# EAGLE library part RFD22301 (library everykey)
RFduino module
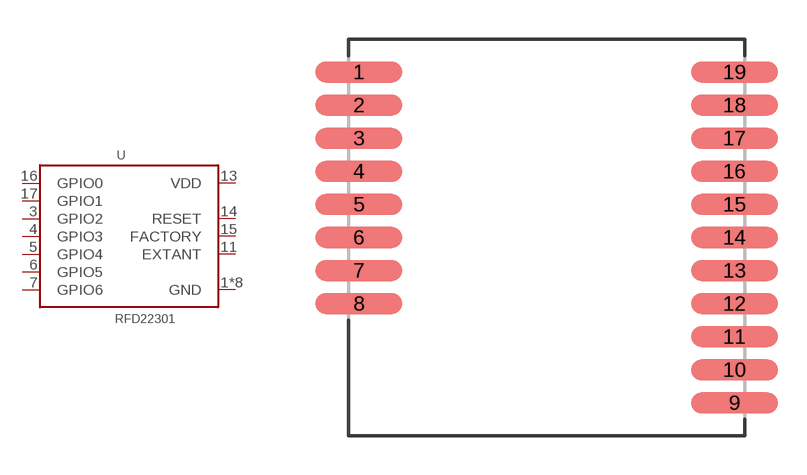
[diagram p56: symbol with the pads of RFD22301; footprint RFD22301]

Designator prefix -

## RFD22301  [RFD22301]
1  GND  pwr
2  GND  pwr
3  GPIO2
4  GPIO3
5  GPIO4
6  GPIO5
7  GPIO6
8  GND  pwr
9  GND  pwr
10  GND  pwr
11  EXTANT
12  GND  pwr
13  VDD  pwr
14  RESET
15  FACTORY
16  GPIO0
17  GPIO1
18  GND  pwr
19  GND  pwr

## Footprint RFD22301 (pad centres in mm)
RFduino module
smd 3.353 x 0.813: 1 -7.214,6.35; 2 -7.214,5.08; 3 -7.214,3.81; 4 -7.214,2.54; 5 -7.214,1.27; 6 -7.214,0; 7 -7.214,-1.27; 8 -7.214,-2.54; 9 7.214,-6.35; 10 7.214,-5.08; 11 7.214,-3.81; 12 7.214,-2.54; 13 7.214,-1.27; 14 7.214,0; 15 7.214,1.27; 16 7.214,2.54; 17 7.214,3.81; 18 7.214,5.08; 19 7.214,6.35